# Altium schematic symbol library Hirose-RF_Conn.SchLib: 2 symbols
Pins are listed as number, name and electrical type; pins without a type are passive.

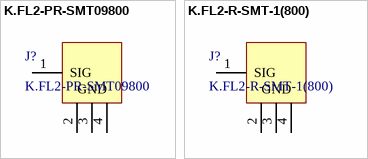
[diagram p0: symbols K.FL2-PR-SMT09800 to K.FL2-R-SMT-1(800)]

## K.FL2-PR-SMT09800
designator J?
K.FL2 Connector Plug, Female Socket 50 Ohms Surface Mount Solder
footprint K.FL2-PR-SMT09(800) (Footprint not found)
pins: 1 SIG, 2 GND, 3 GND, 4 GND

## K.FL2-R-SMT-1(800)
designator J?
K.FL2 Connector Plug, Female Socket 50 Ohms Surface Mount Solder
footprint K.FL2-R-SMT-1(800)
pins: 1 SIG, 2 GND, 3 GND, 4 GND